# Altium schematic symbol library CC8530.SchLib: 1 symbol
Pins are listed as number, name and electrical type; pins without a type are passive.

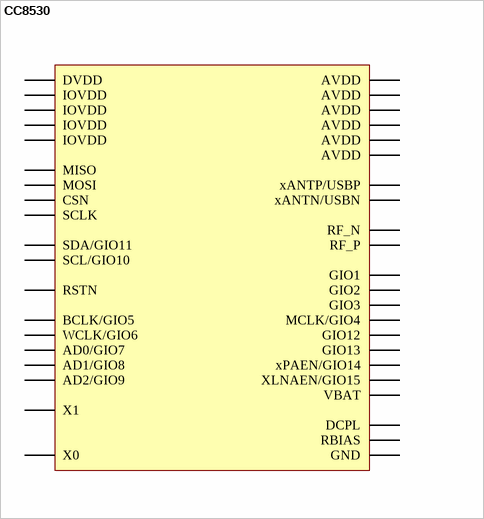
[diagram p0: symbol CC8530]

## CC8530
designator U?
pins: 1 xANTN/USBN, 2 xANTP/USBP, 3 CSN, 4 SCLK, 5 MOSI, 6 MISO, 7 GIO1, 8 GIO2, 9 GIO3, 10 IOVDD, 11 RSTN, 12 IOVDD, 13 MCLK/GIO4, 14 BCLK/GIO5, 15 WCLK/GIO6, 16 AD0/GIO7, 17 AD1/GIO8, 18 IOVDD, 19 AD2/GIO9, 20 AVDD, 21 X1, 22 X0, 23 AVDD, 24 RF_P, 25 RF_N, 26 AVDD, 27 AVDD, 28 AVDD, 29 VBAT, 30 RBIAS, 31 AVDD, 32 SCL/GIO10, 33 SDA/GIO11, 34 GIO12, 35 GIO13, 36 xPAEN/GIO14, 37 IOVDD, 38 XLNAEN/GIO15, 39 DCPL, 40 DVDD, 41 GND